# Altium footprint library ADL5308ACCZ.PcbLib: 3 footprints
Each footprint in its own frame and in the unit in brackets; x right, y up, seen from the top. Pads: shape width x height; smd on the part's side, far side on the other; paste and mask are expansions set on the pad; w line width, h text height; cw(c..) or ccw(c..) is an arc to the next point about the centre after c.
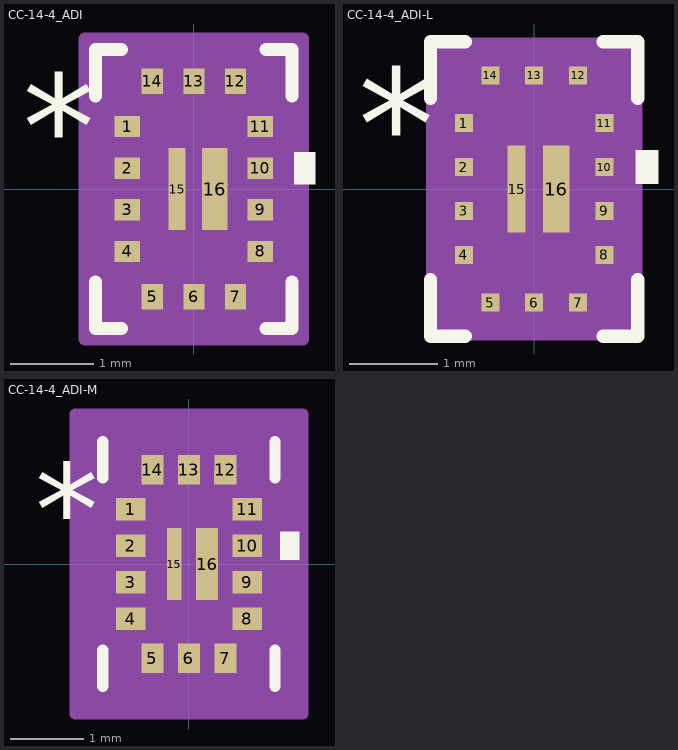
[diagram p0: the footprints below, top view; thin cyan lines are the x and y axes]

## CC-14-4_ADI [mil]
pads (16):
  rect 12x10 smd paste+0 mask+0: 1(-31.5,29.53) 2(-31.5,9.84) 3(-31.5,-9.84) 4(-31.5,-29.53) 8(31.5,-29.53) 9(31.5,-9.84) 10(31.5,9.84) 11(31.5,29.53)
  rect 10x12 smd paste+0 mask+0: 5(-19.68,-51) 6(0,-51) 7(19.68,-51) 12(19.68,51) 13(0,51) 14(-19.68,51)
  rect 8x39 smd paste+0 mask+0: 15(-7.87,0)
  rect 12x39 smd paste+0 mask+0: 16(9.84,0)
Top Overlay:
  region: 47.5,17.34 57.5,17.34 57.5,2.34 47.5,2.34
  lines w6: -46.5,-44.05 -46.5,-66 -34.2,-66 ; -46.5,44.05 -46.5,66 -34.2,66 ; 34.2,-66 46.5,-66 46.5,-44.05 ; 34.2,66 46.5,66 46.5,44.05
  text "*" at -81,4.53 h50
  text ".Designator" at -137.5,-25 h50
Mechanical 13:
  lines w1: -41.5,11 8.5,61 ; -41.5,-61 41.5,-61 41.5,61 -41.5,61 -41.5,-61 ; -41.5,-34.53 -41.5,-24.53 -37.5,-24.53 -37.5,-34.53 -41.5,-34.53 ; -41.5,-14.84 -41.5,-4.84 -37.5,-4.84 -37.5,-14.84 -41.5,-14.84 ; -41.5,4.84 -41.5,14.84 -37.5,14.84 -37.5,4.84 -41.5,4.84 ; -41.5,24.53 -41.5,34.53 -37.5,34.53 -37.5,24.53 -41.5,24.53 ; -24.68,-61 -14.69,-61 -14.69,-57 -24.68,-57 -24.68,-61 ; -24.68,57 -14.69,57 -14.69,61 -24.68,61 -24.68,57 ; -5,-61 5,-61 5,-57 -5,-57 -5,-61 ; -5,57 5,57 5,61 -5,61 -5,57 ; 14.69,-61 24.68,-61 24.68,-57 14.69,-57 14.69,-61 ; 14.69,57 24.68,57 24.68,61 14.69,61 14.69,57 ; 37.5,-34.53 41.5,-34.53 41.5,-24.53 37.5,-24.53 37.5,-34.53 ; 37.5,-14.84 41.5,-14.84 41.5,-4.84 37.5,-4.84 37.5,-14.84 ; 37.5,4.84 41.5,4.84 41.5,14.84 37.5,14.84 37.5,4.84 ; 37.5,24.53 41.5,24.53 41.5,34.53 37.5,34.53 37.5,24.53
  text ".Designator" at -137.5,-25 h50
  text "*" at -7,4.53 h50
Mechanical 15:
  region: -34.69,-71 -51.5,-71 -51.5,-44.53 -51.5,44.53 -51.5,71 -34.69,71 34.69,71 51.5,71 51.5,44.53 51.5,-44.53 51.5,-71 34.69,-71
  lines w6: -51.5,-44.53 -51.5,-71 -34.69,-71 ; -51.5,-44.53 -51.5,-44.53 ; -51.5,-44.53 -51.5,44.53 ; -51.5,44.53 -51.5,44.53 ; -51.5,44.53 -51.5,71 -34.69,71 ; -34.69,-71 34.69,-71 ; -34.69,-71 -34.69,-71 ; -34.69,71 -34.69,71 ; -34.69,71 34.69,71 ; 34.69,-71 51.5,-71 51.5,-44.53 ; 34.69,-71 34.69,-71 ; 34.69,71 34.69,71 ; 34.69,71 51.5,71 51.5,44.53 ; 51.5,-44.53 51.5,44.53 ; 51.5,-44.53 51.5,-44.53 ; 51.5,44.53 51.5,44.53
3D body "CC-14-4_ADI.step": height 29.09, standoff 0, extent -41.5,-60.98 41.5,60.98

## CC-14-4_ADI-L [mil]
pads (16):
  rect 8.06x8.03 smd paste+0 mask+0: 1(-31.5,29.53) 2(-31.5,9.84) 3(-31.5,-9.84) 4(-31.5,-29.53) 8(31.5,-29.53) 9(31.5,-9.84) 10(31.5,9.84) 11(31.5,29.53)
  rect 8.03x8.06 smd paste+0 mask+0: 5(-19.68,-51) 6(0,-51) 7(19.68,-51) 12(19.68,51) 13(0,51) 14(-19.68,51)
  rect 8x39 smd paste+0 mask+0: 15(-7.87,0)
  rect 12x39 smd paste+0 mask+0: 16(9.84,0)
Top Overlay:
  region: 45.53,17.34 55.53,17.34 55.53,2.34 45.53,2.34
  lines w6: -46.5,-40.71 -46.5,-66 -30.86,-66 ; -46.5,40.71 -46.5,66 -30.86,66 ; 30.86,-66 46.5,-66 46.5,-40.71 ; 30.86,66 46.5,66 46.5,40.71
  text "*" at -79.03,4.53 h50
  text ".Designator" at -137.5,-25 h50
Mechanical 13:
  lines w1: -41.5,11 8.5,61 ; -41.5,-61 41.5,-61 41.5,61 -41.5,61 -41.5,-61 ; -41.5,-34.53 -41.5,-24.53 -37.5,-24.53 -37.5,-34.53 -41.5,-34.53 ; -41.5,-14.84 -41.5,-4.84 -37.5,-4.84 -37.5,-14.84 -41.5,-14.84 ; -41.5,4.84 -41.5,14.84 -37.5,14.84 -37.5,4.84 -41.5,4.84 ; -41.5,24.53 -41.5,34.53 -37.5,34.53 -37.5,24.53 -41.5,24.53 ; -24.68,-61 -14.69,-61 -14.69,-57 -24.68,-57 -24.68,-61 ; -24.68,57 -14.69,57 -14.69,61 -24.68,61 -24.68,57 ; -5,-61 5,-61 5,-57 -5,-57 -5,-61 ; -5,57 5,57 5,61 -5,61 -5,57 ; 14.69,-61 24.68,-61 24.68,-57 14.69,-57 14.69,-61 ; 14.69,57 24.68,57 24.68,61 14.69,61 14.69,57 ; 37.5,-34.53 41.5,-34.53 41.5,-24.53 37.5,-24.53 37.5,-34.53 ; 37.5,-14.84 41.5,-14.84 41.5,-4.84 37.5,-4.84 37.5,-14.84 ; 37.5,4.84 41.5,4.84 41.5,14.84 37.5,14.84 37.5,4.84 ; 37.5,24.53 41.5,24.53 41.5,34.53 37.5,34.53 37.5,24.53
  text ".Designator" at -137.5,-25 h50
  text "*" at -8.97,4.53 h50
Mechanical 15:
  region: -27.7,-65 -45.5,-65 -45.5,-37.54 -45.5,37.54 -45.5,65 -27.7,65 27.7,65 45.5,65 45.5,37.54 45.5,-37.54 45.5,-65 27.7,-65
  lines w6: -45.5,-37.54 -45.5,-65 -27.7,-65 ; -45.5,-37.54 -45.5,-37.54 ; -45.5,-37.54 -45.5,37.54 ; -45.5,37.54 -45.5,37.54 ; -45.5,37.54 -45.5,65 -27.7,65 ; -27.7,-65 27.7,-65 ; -27.7,-65 -27.7,-65 ; -27.7,65 -27.7,65 ; -27.7,65 27.7,65 ; 27.7,-65 45.5,-65 45.5,-37.54 ; 27.7,-65 27.7,-65 ; 27.7,65 27.7,65 ; 27.7,65 45.5,65 45.5,37.54 ; 45.5,-37.54 45.5,37.54 ; 45.5,-37.54 45.5,-37.54 ; 45.5,37.54 45.5,37.54
3D body "CC-14-4_ADI.step": height 29.09, standoff 0, extent -41.5,-60.98 41.5,60.98

## CC-14-4_ADI-M [mil]
pads (16):
  rect 15.94x11.97 smd paste+0 mask+0: 1(-31.5,29.53) 2(-31.5,9.84) 3(-31.5,-9.84) 4(-31.5,-29.53) 8(31.5,-29.53) 9(31.5,-9.84) 10(31.5,9.84) 11(31.5,29.53)
  rect 11.97x15.94 smd paste+0 mask+0: 5(-19.68,-51) 6(0,-51) 7(19.68,-51) 12(19.68,51) 13(0,51) 14(-19.68,51)
  rect 8x39 smd paste+0 mask+0: 15(-7.87,0)
  rect 12x39 smd paste+0 mask+0: 16(9.84,0)
Top Overlay:
  region: 49.47,17.34 59.47,17.34 59.47,2.34 49.47,2.34
  lines w6: -46.5,-66 -46.5,-46.56 ; -46.5,46.56 -46.5,66 ; 46.5,-66 46.5,-46.56 ; 46.5,46.56 46.5,66
  text "*" at -82.97,4.53 h50
  text ".Designator" at -137.5,-25 h50
Mechanical 13:
  lines w1: -41.5,11 8.5,61 ; -41.5,-61 41.5,-61 41.5,61 -41.5,61 -41.5,-61 ; -41.5,-34.53 -41.5,-24.53 -37.5,-24.53 -37.5,-34.53 -41.5,-34.53 ; -41.5,-14.84 -41.5,-4.84 -37.5,-4.84 -37.5,-14.84 -41.5,-14.84 ; -41.5,4.84 -41.5,14.84 -37.5,14.84 -37.5,4.84 -41.5,4.84 ; -41.5,24.53 -41.5,34.53 -37.5,34.53 -37.5,24.53 -41.5,24.53 ; -24.68,-61 -14.69,-61 -14.69,-57 -24.68,-57 -24.68,-61 ; -24.68,57 -14.69,57 -14.69,61 -24.68,61 -24.68,57 ; -5,-61 5,-61 5,-57 -5,-57 -5,-61 ; -5,57 5,57 5,61 -5,61 -5,57 ; 14.69,-61 24.68,-61 24.68,-57 14.69,-57 14.69,-61 ; 14.69,57 24.68,57 24.68,61 14.69,61 14.69,57 ; 37.5,-34.53 41.5,-34.53 41.5,-24.53 37.5,-24.53 37.5,-34.53 ; 37.5,-14.84 41.5,-14.84 41.5,-4.84 37.5,-4.84 37.5,-14.84 ; 37.5,4.84 41.5,4.84 41.5,14.84 37.5,14.84 37.5,4.84 ; 37.5,24.53 41.5,24.53 41.5,34.53 37.5,34.53 37.5,24.53
  text ".Designator" at -137.5,-25 h50
  text "*" at -5.03,4.53 h50
Mechanical 15:
  region: -45.67,-81 -61.5,-81 -61.5,-55.51 -61.5,55.51 -61.5,81 -45.67,81 45.67,81 61.5,81 61.5,55.51 61.5,-55.51 61.5,-81 45.67,-81
  lines w6: -61.5,-55.51 -61.5,-81 -45.67,-81 ; -61.5,-55.51 -61.5,-55.51 ; -61.5,-55.51 -61.5,55.51 ; -61.5,55.51 -61.5,55.51 ; -61.5,55.51 -61.5,81 -45.67,81 ; -45.67,-81 45.67,-81 ; -45.67,-81 -45.67,-81 ; -45.67,81 -45.67,81 ; -45.67,81 45.67,81 ; 45.67,-81 61.5,-81 61.5,-55.51 ; 45.67,-81 45.67,-81 ; 45.67,81 45.67,81 ; 45.67,81 61.5,81 61.5,55.51 ; 61.5,-55.51 61.5,55.51 ; 61.5,-55.51 61.5,-55.51 ; 61.5,55.51 61.5,55.51
3D body "CC-14-4_ADI.step": height 29.09, standoff 0, extent -41.5,-60.98 41.5,60.98